# EAGLE library part 750317963 (library WE-IBTI)
WE-IBTI Isolated Buck Transformers Characteristics Flybuck™ topology Operating Temp: -40°C to +125°C Excellent leakage inductance and interwinding capacitance performance Applications Industrial Programmable Logic Controllers (PLCs) Building automation and process control Isolated interface power: RS-422, RS-485, CAN, I2C, LAN Motor drive control, inverters and industrial automation Isolated low power drivers & regulators, smart e-meters Bias power supplies for gate drives and op-amps <https://www.we-online.com/components/media/o790826v209%20family-MID-IBTI.1673.jpg> Details see: www.we-online.com/en/components/products/WE-IBTI <www.we-online.com/catalog/WE-IBTI/?utm_source=eagle_model&utm_medium=description_link&utm_campaign=eisos_eagle> Created by Ella Wu 2024-06-07 2024 (C) Wurth Elektronik
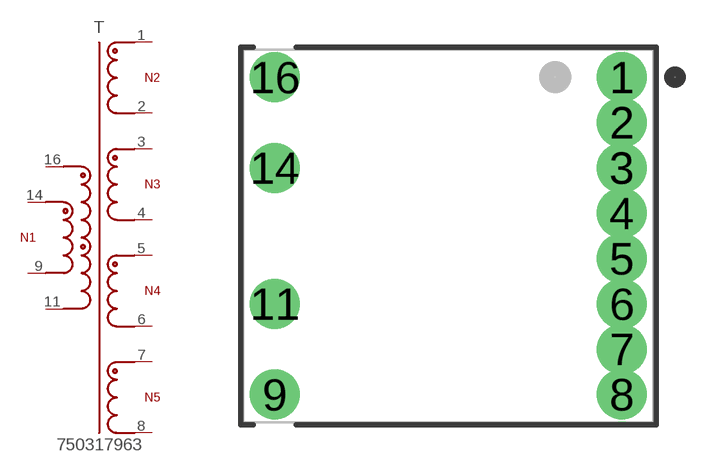
[diagram p24: symbol with the pads of WE-IBTI_EP13_L13.97W15.37H12.7; footprint WE-IBTI_EP13_L13.97W15.37H12.7]

Designator prefix T

## 750317963 (DATASHEET-URL: https://www.we-online.com/redexpert/spec/750317963?ae; FSWITCH: 220 - 350kHz; HEIGHT: 12.7mm; IOUT1: 60mA; IOUT2: 60mA; IOUT3: 60mA; IOUT4: 60mA; ISAT: 2.4A; L: 22uH; LENGTH: 13.97mm; LS: 200nH; MOUNT: THT; N: 0.5:1:1:1:1; PART-NUMBER: 750317963; SIZE: EP13; VALUE: 750317963; VIN: 18 - 60 V (DC); VOUT1: 25V; VOUT2: 25V; VOUT3: 25V; VOUT4: 25V; VT: 1000V(AC); WIDTH: 15.37mm)  [WE-IBTI_EP13_L13.97W15.37H12.7]
1  1  pas
2  2  pas
3  3  pas
4  4  pas
5  5  pas
6  6  pas
7  7  pas
8  8  pas
9  9  pas
11  11  pas
14  14  pas
16  16  pas

## Footprint WE-IBTI_EP13_L13.97W15.37H12.7 (pad centres in mm)
WE-IBTI Isolated Buck Transformers Size: EP13,THT,12pins LXWXH=13.97X15.37X12.7mm
drill 1.25 pad 1.5: 1 6.5,5.95; 2 6.5,4.25; 3 6.5,2.55; 4 6.5,0.85; 5 6.5,-0.85; 6 6.5,-2.55; 7 6.5,-4.25; 8 6.5,-5.95
drill 1.25: 9 -6.5,-5.95; 11 -6.5,-2.55; 14 -6.5,2.55; 16 -6.5,5.95